# Altium integrated library MAX14850ASE Digital Isolator.IntLib: 1 symbol
Pins are listed as number, name and electrical type; pins without a type are passive.

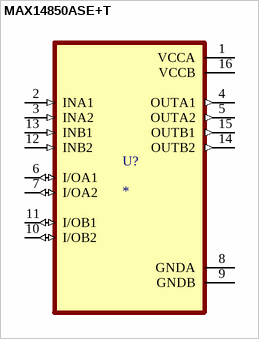
[diagram p0: symbol MAX14850ASE+T]

## MAX14850ASE+T
designator U?
Six-Channel Digital Isolator; MF: Analog Devices; MP: MAX14850ASE+T; SnapEDA_Link: https://www.snapeda.com/parts/MAX14850ASE+T/Analog+Devices/view-part/?ref=snap; Package: SOIC-16 Maxim Integrated; Value: *; Check_prices: https://www.snapeda.com/parts/MAX14850ASE+T/Analog+Devices/view-part/?ref=eda
footprint SOIC127P600X175-16N
pins: 1 VCCA (power), 2 INA1 (in), 3 INA2 (in), 4 OUTA1 (out), 5 OUTA2 (out), 6 I/OA1 (io), 7 I/OA2 (io), 8 GNDA (power), 9 GNDB (power), 10 I/OB2 (io), 11 I/OB1 (io), 12 INB2 (in), 13 INB1 (in), 14 OUTB2 (out), 15 OUTB1 (out), 16 VCCB (power)